# Altium schematic symbol library SCH - RF - MIXER - AD LTC5556.SCHLIB: 1 symbol
Pins are listed as number, name and electrical type; pins without a type are passive.

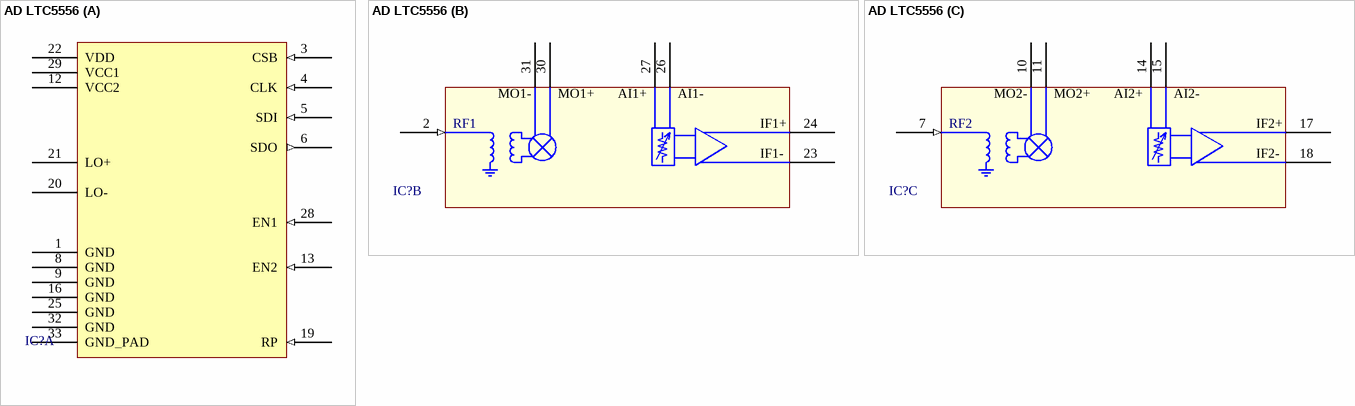
[diagram p0: symbol AD LTC5556]

## AD LTC5556
designator IC?
part A pins: 1 GND (power), 3 CSB (in), 4 CLK (in), 5 SDI (in), 6 SDO (out), 8 GND (power), 9 GND (power), 12 VCC2 (power), 13 EN2 (in), 16 GND (power), 19 RP (in), 20 LO- (power), 21 LO+ (power), 22 VDD (power), 25 GND (power), 28 EN1 (in), 29 VCC1 (power), 32 GND (power), 33 GND_PAD (power)
part B pins: 2 RF1 (in), 23 IF1- (power), 24 IF1+ (power), 26 AI1- (power), 27 AI1+ (power), 30 MO1+ (power), 31 MO1- (power)
part C pins: 7 RF2 (in), 10 MO2- (power), 11 MO2+ (power), 14 AI2+ (power), 15 AI2- (power), 17 IF2+ (power), 18 IF2- (power)